# Altium schematic symbol library BI-LEVEL LED INDICATOR.SchLib: 1 symbol
Pins are listed as number, name and electrical type; pins without a type are passive.

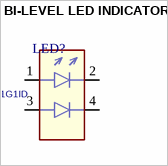
[diagram p0: symbol BI-LEVEL LED INDICATOR]

## BI-LEVEL LED INDICATOR
designator LED?, comment L-710A8FG/1G1ID
ID: L-710A8FG/1G1ID
footprint BI-LEVEL LED INDICATOR
pins: 1, 2, 3, 4